# Altium footprint library IDC_100_2x5.PcbLib: 1 footprints
Each footprint in its own frame and in the unit in brackets; x right, y up, seen from the top. Pads: shape width x height; smd on the part's side, far side on the other; paste and mask are expansions set on the pad; w line width, h text height; cw(c..) or ccw(c..) is an arc to the next point about the centre after c.
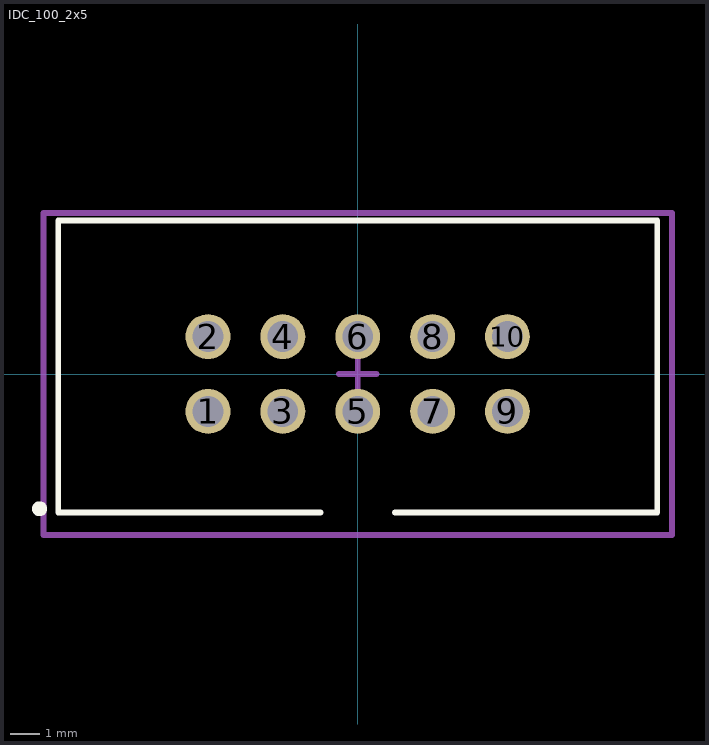
[diagram p0: the footprint, top view; thin cyan lines are the x and y axes]

## IDC_100_2x5 [mil]
pads (10):
  round 60 hole 41: 1(-200,-50) 2(-200,50) 3(-100,-50) 4(-100,50) 5(0,-50) 6(0,50) 7(100,-50) 8(100,50) 9(200,-50) 10(200,50)
Top Overlay:
  circle w10: c-425,-180 r5
  lines w7.87: -50,-185 -400,-185 -400,205 400,205 400,-185 50,-185
Mechanical 15:
  lines w7.87: -25,0 25,0 ; 0,-25 0,25 ; -420,-215 420,-215 420,215 -420,215 -420,-215
3D body "75869101lf.stp": height 366.93, standoff -120.04, extent -389.99,-169.99 393.87,194.97